# Altium schematic symbol library AD5941BCPZ.SchLib: 1 symbol
Pins are listed as number, name and electrical type; pins without a type are passive.

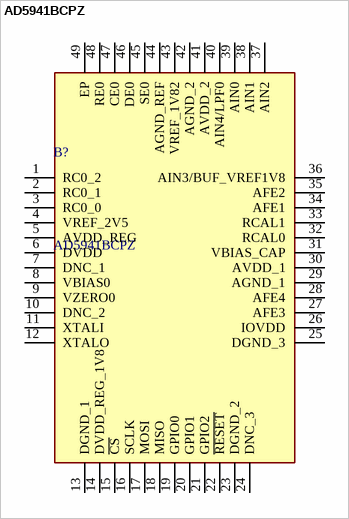
[diagram p0: symbol AD5941BCPZ]

## AD5941BCPZ
designator B?
High Precision, Impedance & Electrochemical Front End; Manufacturer_Name: Analog Devices; Geometry.Height: 0.8mm; Manufacturer_Part_Number: AD5941BCPZ; Mouser Part Number: 584-AD5941BCPZ; Mouser Price/Stock: https://www.mouser.co.uk/ProductDetail/Analog-Devices/AD5941BCPZ?qs=B6kkDfuK7%2FDIxZEWBBp0eA%3D%3D; Arrow Part Number: AD5941BCPZ; Arrow Price/Stock: https://www.arrow.com/en/products/ad5941bcpz/analog-devices.html?utm_currency=USD&region=europe; Datasheet Link: https://www.analog.com/media/en/technical-documentation/data-sheets/AD5940-5941.pdf
footprint QFN50P700X700X80-49N-D
pins: 1 RC0_2, 2 RC0_1, 3 RC0_0, 4 VREF_2V5, 5 AVDD_REG, 6 DVDD, 7 DNC_1, 8 VBIAS0, 9 VZERO0, 10 DNC_2, 11 XTALI, 12 XTALO, 13 DGND_1, 14 DVDD_REG_1V8, 15 ~{CS}, 16 SCLK, 17 MOSI, 18 MISO, 19 GPIO0, 20 GPIO1, 21 GPIO2, 22 ~{RESET}, 23 DGND_2, 24 DNC_3, 25 DGND_3, 26 IOVDD, 27 AFE3, 28 AFE4, 29 AGND_1, 30 AVDD_1, 31 VBIAS_CAP, 32 RCAL0, 33 RCAL1, 34 AFE1, 35 AFE2, 36 AIN3/BUF_VREF1V8, 37 AIN2, 38 AIN1, 39 AIN0, 40 AIN4/LPF0, 41 AVDD_2, 42 AGND_2, 43 VREF_1V82, 44 AGND_REF, 45 SE0, 46 DE0, 47 CE0, 48 RE0, 49 EP